# Altium schematic symbol library Resistors.SchLib: 196 symbols (part 2 of 2)
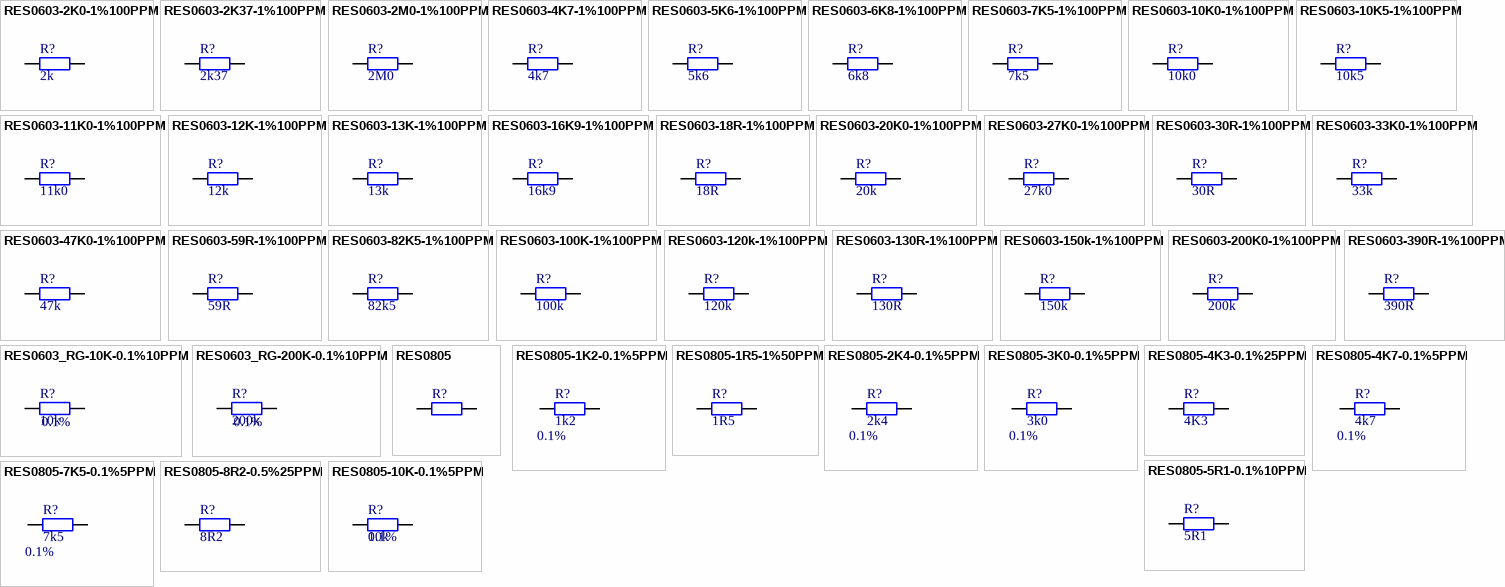
[diagram p7: symbols RES0603-2K0-1%100PPM to RES0805-10K-0.1%5PPM]

## RES0603_RG-10K-0.1%10PPM
designator R?, comment 10k  Comment3: 0.1%
Chip Resistor 0603 Precision; Manufacturer: Susumu, Farnell; Manufacturer No: RG1608N-103-B-T1, 1653317; Comment2: 0.1W 0.1% 10ppm 75V; Sort: 110; Tech: SMDR; Package: Res Chip 0603; Price: 0.31
simulation model RESISTOR (Resistor)
signal-integrity model Res
footprint RC0603-1 (Chip upor 0603)
footprint RC0603-2N (Chip Resistor, 2-Leads, Body 1,6x0,8mm, IPC Medium Density)
footprint RC0603-2 (Chip resistor 0603 low C)
pins: 1, 2

## RES0603_RG-200K-0.1%10PPM
designator R?, comment 200k  Comment3: 0.1%
Chip Resistor 0603 Precision; Manufacturer: Susumu, Farnell; Manufacturer No: RG1608N-204-B-T1, 1653319; Comment2: 0.1W 0.1% 10ppm 75V; Sort: 110; Tech: SMDR; Package: Res Chip 0603; Price: 0.31
simulation model RESISTOR (Resistor)
signal-integrity model Res
footprint RC0603-1 (Chip upor 0603)
footprint RC0603-2N (Chip Resistor, 2-Leads, Body 1,6x0,8mm, IPC Medium Density)
footprint RC0603-2 (Chip resistor 0603 low C)
pins: 1, 2

## RES0805
designator R?
Chip Resistor 0805; Comment2: 0.125W 1% 200ppm; Sort: 110; Tech: SMDR; Package: Res Chip 0805; Price: 0.002
simulation model RESISTOR (Resistor)
signal-integrity model Res
footprint RC0805-1 (Chip upor 0805)
footprint RC0805RF1 (Chip upor 0805; smaller pads for RF)
pins: 1, 2

## RES0805-1K2-0.1%5PPM
designator R?, comment 1k2  Tolerance: 0.1%
Chip Resistor 0805 Precision; Manufacturer: Welwyn, Farnell; Manufacturer No: PCF0805-13-1K2-B-T1., 1108866; Comment2: 0.1W 0.1% 5ppm; Sort: 112; Tech: SMDR; Package: Res Chip 0805; Price: 0.77
simulation model RESISTOR (Resistor)
signal-integrity model Res
footprint RC0805-1 (Chip upor 0805)
footprint RC0805RF1 (Chip upor 0805; smaller pads for RF)
pins: 1, 2

## RES0805-1R5-1%50PPM
designator R?, comment 1R5
Chip Resistor 0805 Precision; Manufacturer: Yageo; Manufacturer No: RT0805FRE071R5L; Comment2: 0.1W 1% 50ppm; Sort: 112; Tech: SMDR; Package: Res Chip 0805; Price: 1.1
simulation model RESISTOR (Resistor)
signal-integrity model Res
footprint RC0805-1 (Chip upor 0805)
footprint RC0805RF1 (Chip upor 0805; smaller pads for RF)
pins: 1, 2

## RES0805-2K4-0.1%5PPM
designator R?, comment 2k4  Tolerance: 0.1%
Chip Resistor 0805 Precision; Manufacturer: Welwyn, Farnell; Manufacturer No: PCF0805-13-2K4-B-T1., 1108874; Comment2: 0.1W 0.1% 5ppm; Sort: 112; Tech: SMDR; Package: Res Chip 0805; Price: 1.1
simulation model RESISTOR (Resistor)
signal-integrity model Res
footprint RC0805-1 (Chip upor 0805)
footprint RC0805RF1 (Chip upor 0805; smaller pads for RF)
pins: 1, 2

## RES0805-3K0-0.1%5PPM
designator R?, comment 3k0  Tolerance: 0.1%
Chip Resistor 0805 Precision; Manufacturer: Welwyn, Farnell; Manufacturer No: PCF0805-13-3K-B-T1., 1108877; Comment2: 0.1W 0.1% 5ppm; Sort: 112; Tech: SMDR; Package: Res Chip 0805; Price: 1.1
simulation model RESISTOR (Resistor)
signal-integrity model Res
footprint RC0805-1 (Chip upor 0805)
footprint RC0805RF1 (Chip upor 0805; smaller pads for RF)
pins: 1, 2

## RES0805-4K3-0.1%25PPM
designator R?, comment 4K3
Chip Resistor 0805 Precision; Manufacturer: Panasonic, DigiK-key; Manufacturer No: ERA-6AEB432V. P4.3KDACT-ND; Comment2: 0.125W 0.1% 25ppm; Sort: 112; Tech: SMDR; Package: Res Chip 0805; Price: 1.1
simulation model RESISTOR (Resistor)
signal-integrity model Res
footprint RC0805-1 (Chip upor 0805)
footprint RC0805RF1 (Chip upor 0805; smaller pads for RF)
pins: 1, 2

## RES0805-4K7-0.1%5PPM
designator R?, comment 4k7  Tolerance: 0.1%
Chip Resistor 0805 Precision; Manufacturer: Welwyn, Farnell; Manufacturer No: PCF0805-13-4K7-B-T1., 1108882; Comment2: 0.1W 0.1% 5ppm; Sort: 112; Tech: SMDR; Package: Res Chip 0805; Price: 1.1
simulation model RESISTOR (Resistor)
signal-integrity model Res
footprint RC0805-1 (Chip upor 0805)
footprint RC0805RF1 (Chip upor 0805; smaller pads for RF)
pins: 1, 2

## RES0805-5R1-0.1%10PPM
designator R?, comment 5R1
Chip Resistor 0805 Precision; Manufacturer: Yageo; Manufacturer No: RT0805BRB075R1L; Comment2: 0.125W 0.1% 10ppm; Sort: 112; Tech: SMDR; Package: Res Chip 0805; Price: 1.1
simulation model RESISTOR (Resistor)
signal-integrity model Res
footprint RC0805-1 (Chip upor 0805)
footprint RC0805RF1 (Chip upor 0805; smaller pads for RF)
pins: 1, 2

## RES0805-7K5-0.1%5PPM
designator R?, comment 7k5  Tolerance: 0.1%
Chip Resistor 0805 Precision; Manufacturer: Welwyn, Farnell; Manufacturer No: PCF0805-13-7K5-B-T1., 1108887; Comment2: 0.1W 0.1% 5ppm; Sort: 112; Tech: SMDR; Package: Res Chip 0805; Price: 0.77
simulation model RESISTOR (Resistor)
signal-integrity model Res
footprint RC0805-1 (Chip upor 0805)
footprint RC0805RF1 (Chip upor 0805; smaller pads for RF)
pins: 1, 2

## RES0805-8R2-0.5%25PPM
designator R?, comment 8R2
Chip Resistor 0805 Precision; Manufacturer: Yageo; Manufacturer No: RT0805DRD078R2L; Comment2: 0.1W 0.5% 25ppm; Sort: 112; Tech: SMDR; Package: Res Chip 0805; Price: 1.1
simulation model RESISTOR (Resistor)
signal-integrity model Res
footprint RC0805-1 (Chip upor 0805)
footprint RC0805RF1 (Chip upor 0805; smaller pads for RF)
pins: 1, 2

## RES0805-10K-0.1%5PPM
designator R?, comment 10k  Tolerance: 0.1%
Chip Resistor 0805 Precision; Manufacturer: Welwyn, Farnell; Manufacturer No: PCF0805-13-10K-B-T1., 1108892; Comment2: 0.1W 0.1% 5ppm; Sort: 112; Tech: SMDR; Package: Res Chip 0805; Price: 0.77
simulation model RESISTOR (Resistor)
signal-integrity model Res
footprint RC0805-1 (Chip upor 0805)
footprint RC0805RF1 (Chip upor 0805; smaller pads for RF)
pins: 1, 2

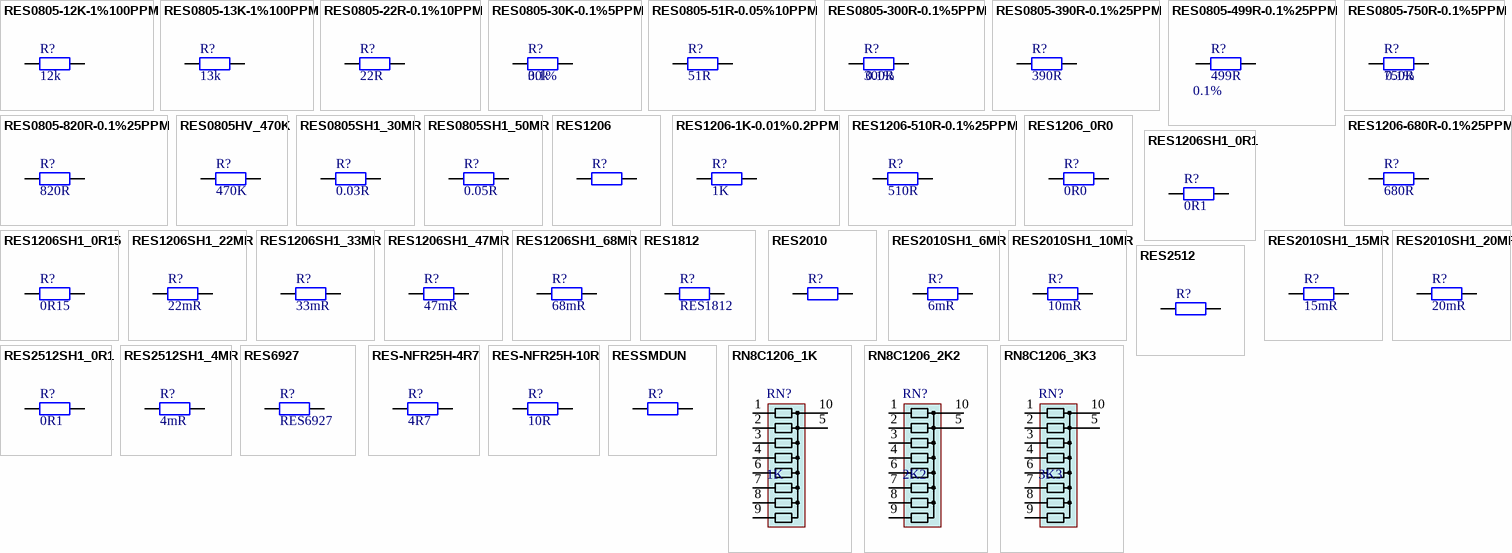
[diagram p5: symbols RES0805-12K-1%100PPM to RN8C1206_3K3]

## RES0805-12K-1%100PPM
designator R?, comment 12k
Chip Resistor 0805 Precision; Manufacturer: Panasonic; Manufacturer No: ERJ-3EKF1202V; Comment2: 0.1W 1% 100ppm; Sort: 112; Tech: SMDR; Package: Res Chip 0805; Price: 0.1; Supplier: Digi-Key; Supplier No: P12.0KHCT-ND
simulation model RESISTOR (Resistor)
signal-integrity model Res
footprint RC0805-1 (Chip upor 0805)
footprint RC0805RF1 (Chip upor 0805; smaller pads for RF)
pins: 1, 2

## RES0805-13K-1%100PPM
designator R?, comment 13k
Chip Resistor 0805 Precision; Manufacturer: Panasonic; Manufacturer No: ERJ-6ENF1302V; Comment2: 0.1W 1% 100ppm; Sort: 112; Tech: SMDR; Package: Res Chip 0805; Price: 0.1; Supplier: Digi-Key; Supplier No: P13.0KCCT-ND
simulation model RESISTOR (Resistor)
signal-integrity model Res
footprint RC0805-1 (Chip upor 0805)
footprint RC0805RF1 (Chip upor 0805; smaller pads for RF)
pins: 1, 2

## RES0805-22R-0.1%10PPM
designator R?, comment 22R
Chip Resistor 0805 Precision; Manufacturer: Yageo; Manufacturer No: RT0805BRB0722RL; Comment2: 0.125W 0.1% 10ppm; Sort: 112; Tech: SMDR; Package: Res Chip 0805; Price: 1.1
simulation model RESISTOR (Resistor)
signal-integrity model Res
footprint RC0805-1 (Chip upor 0805)
footprint RC0805RF1 (Chip upor 0805; smaller pads for RF)
pins: 1, 2

## RES0805-30K-0.1%5PPM
designator R?, comment 30k  Tolerance: 0.1%
Chip Resistor 0805 Precision; Manufacturer: Welwyn, Farnell; Manufacturer No: PCF0805-13-30K-B-T1., 1108903; Comment2: 0.1W 0.1% 5ppm; Sort: 112; Tech: SMDR; Package: Res Chip 0805; Price: 0.77
simulation model RESISTOR (Resistor)
signal-integrity model Res
footprint RC0805-1 (Chip upor 0805)
footprint RC0805RF1 (Chip upor 0805; smaller pads for RF)
pins: 1, 2

## RES0805-51R-0.05%10PPM
designator R?, comment 51R
Chip Resistor 0805 Precision; Manufacturer: Yageo, Susumu, DigiK-key,; Manufacturer No: RT0805BRB0751RL, RG2012N-510-W-T1, RG20N51WCT-ND; Comment2: 0.125W 0.1% 10ppm; Sort: 112; Tech: SMDR; Package: Res Chip 0805; Price: 1.1
simulation model RESISTOR (Resistor)
signal-integrity model Res
footprint RC0805-1 (Chip upor 0805)
footprint RC0805RF1 (Chip upor 0805; smaller pads for RF)
pins: 1, 2

## RES0805-300R-0.1%5PPM
designator R?, comment 300R  Tolerance: 0.1%
Chip Resistor 0805 Precision; Manufacturer: Welwyn, Farnell; Manufacturer No: PCF0805-13-300R-B-T1, 1108848; Comment2: 0.1W 0.1% 5ppm; Sort: 112; Tech: SMDR; Package: Res Chip 0805; Price: 0,77
simulation model RESISTOR (Resistor)
signal-integrity model Res
footprint RC0805-1 (Chip upor 0805)
footprint RC0805RF1 (Chip upor 0805; smaller pads for RF)
pins: 1, 2

## RES0805-390R-0.1%25PPM
designator R?, comment 390R
Chip Resistor 0805 Precision; Manufacturer: Panasonic, DigiK-key; Manufacturer No: 311-5.1VCT-ND, P390DACT-ND; Comment2: 0.125W 0.1% 25ppm; Sort: 112; Tech: SMDR; Package: Res Chip 0805; Price: 1.1
simulation model RESISTOR (Resistor)
signal-integrity model Res
footprint RC0805-1 (Chip upor 0805)
footprint RC0805RF1 (Chip upor 0805; smaller pads for RF)
pins: 1, 2

## RES0805-499R-0.1%25PPM
designator R?, comment 499R  Tolerance: 0.1%
Chip Resistor 0805 Precision; Manufacturer: Welwyn, Farnell; Manufacturer No: PCF0805R 499RBI.T1, 1160132; Comment2: 0.1W 0.1% 25ppm; Sort: 112; Tech: SMDR; Package: Res Chip 0805; Price: 0,4
simulation model RESISTOR (Resistor)
signal-integrity model Res
footprint RC0805-1 (Chip upor 0805)
footprint RC0805RF1 (Chip upor 0805; smaller pads for RF)
pins: 1, 2

## RES0805-750R-0.1%5PPM
designator R?, comment 750R  Tolerance: 0.1%
Chip Resistor 0805 Precision; Manufacturer: Welwyn, Farnell; Manufacturer No: PCF0805-13-750R-B-T1, 1108860; Comment2: 0.1W 0.1% 5ppm; Sort: 112; Tech: SMDR; Package: Res Chip 0805; Price: 0,4
simulation model RESISTOR (Resistor)
signal-integrity model Res
footprint RC0805-1 (Chip upor 0805)
footprint RC0805RF1 (Chip upor 0805; smaller pads for RF)
pins: 1, 2

## RES0805-820R-0.1%25PPM
designator R?, comment 820R
Chip Resistor 0805 Precision; Manufacturer: Panasonic, DigiK-key; Manufacturer No: ERA-6AEB821V, P820DACT-ND; Comment2: 0.125W 0.1% 25ppm; Sort: 112; Tech: SMDR; Package: Res Chip 0805; Price: 1.1
simulation model RESISTOR (Resistor)
signal-integrity model Res
footprint RC0805-1 (Chip upor 0805)
footprint RC0805RF1 (Chip upor 0805; smaller pads for RF)
pins: 1, 2

## RES0805HV_470K
designator R?, comment 470K
Hi Voltage Chip Resistor 0805; Manufacturer: Phycomp, Farnell; Manufacturer No: 232279261474, 1376992; Comment2: 0.125W 5% 400V DC; Sort: 110; Tech: SMDR; Package: Res Chip 0805; Price: 0.35
simulation model RESISTOR (Resistor)
signal-integrity model Res
footprint RC0805-1 (Chip resistor 0805)
pins: 1, 2

## RES0805SH1_30MR
designator R?, comment 0.03R
Chip Shunt Resistor 0805; Manufacturer: Vishay, Farnell; Manufacturer No: WSL-0805 .03 1% EB E3, 1107335; Comment2: 0.125W 1% 275ppm; Sort: 110; Tech: SMDR; Package: Res Chip 0805; Price: 0.002
simulation model RESISTOR (Resistor)
signal-integrity model Res
footprint RC0805-1 (Chip upor 0805)
footprint RC0805RF1 (Chip upor 0805; smaller pads for RF)
pins: 1, 2

## RES0805SH1_50MR
designator R?, comment 0.05R
Chip Shunt Resistor 0805; Manufacturer: Vishay, Farnell; Manufacturer No: WSL-0805 .05 1% EB E3, 1107337; Comment2: 0.125W 1% 275ppm; Sort: 110; Tech: SMDR; Package: Res Chip 0805; Price: 0.002
simulation model RESISTOR (Resistor)
signal-integrity model Res
footprint RC0805-1 (Chip upor 0805)
footprint RC0805RF1 (Chip upor 0805; smaller pads for RF)
pins: 1, 2

## RES1206
designator R?
Chip Resistor 1206; Comment2: 0.25W 1% 200ppm; Sort: 110; Tech: SMDR; Package: Res Chip 1206; Price: 0.002
simulation model RESISTOR (Resistor)
signal-integrity model Res
footprint RC1206-1 (Chip upor 1206)
footprint RC1206RF1 (Chip upor 1206; smaller pads for RF)
pins: 1, 2

## RES1206-1K-0.01%0.2PPM
designator R?, comment 1K
Chip Resistor 1206; Manufacturer: Vishay, Digi-Key; Manufacturer No: Y16251K00000T9R, Y1625-1KCT-ND; Comment2: 0.125W 0.01% 0.2ppm; Sort: 110; Tech: SMDR; Package: Res Chip 1206; Price: 0.002
simulation model RESISTOR (Resistor)
signal-integrity model Res
footprint RC1206-1 (Chip resistor 1206)
footprint RC0603-2N (Chip Resistor, 2-Leads, Body 1,6x0,8mm, IPC Medium Density)
footprint RC0603-2 (Chip resistor 0603 low C)
pins: 1, 2

## RES1206-510R-0.1%25PPM
designator R?, comment 510R
Chip Resistor 1206; Manufacturer: Panasonic, Farnell; Manufacturer No: ERA8AEB511V, 1841747; Comment2: 0.25W 0.1% 25ppm; Sort: 110; Tech: SMDR; Package: Res Chip 1206; Price: 0.32
simulation model RESISTOR (Resistor)
signal-integrity model Res
footprint RC1206-1 (Chip resistor 1206)
pins: 1, 2

## RES1206-680R-0.1%25PPM
designator R?, comment 680R
Chip Resistor 1206; Manufacturer: Panasonic, Farnell; Manufacturer No: ERA8AAEB681V, 1717744; Comment2: 0.25W 0.1% 25ppm; Sort: 110; Tech: SMDR; Package: Res Chip 1206; Price: 0.32
simulation model RESISTOR (Resistor)
signal-integrity model Res
footprint RC1206-1 (Chip resistor 1206)
pins: 1, 2

## RES1206_0R0
designator R?, comment 0R0
SMD-bridge 0R0 1206; Manufacturer: Mentor; Manufacturer No: 1295.0001; Comment2: 0.25W 1% 200ppm; Sort: 110; Tech: SMDR; Package: Res Chip 1206; Price: 0.002
footprint RC1206-1 (Chip upor 1206)
pins: 1, 2

## RES1206SH1_0R1
designator R?, comment 0R1
Chip Shunt Resistor 1206 1000ppm; Manufacturer: Yageo, Farnell; Manufacturer No: RL1206FR-7W0R1L, 8067589; Comment2: 0.5W 1% 1000ppm; Sort: 110; Tech: SMDR; Package: Res Chip 1206; Price: 0.3
simulation model RESISTOR (Resistor)
signal-integrity model Res
footprint RC1206-1 (Chip upor 1206)
footprint RC1206RF1 (Chip upor 1206; smaller pads for RF)
pins: 1, 2

## RES1206SH1_0R15
designator R?, comment 0R15
Chip Shunt Resistor 1206 1000ppm; Manufacturer: Yageo, Farnell; Manufacturer No: RL1206FR-7W0R15L, 8067597; Comment2: 0.5W 1% 1000ppm; Sort: 110; Tech: SMDR; Package: Res Chip 1206; Price: 0.3
simulation model RESISTOR (Resistor)
signal-integrity model Res
footprint RC1206-1 (Chip upor 1206)
footprint RC1206RF1 (Chip upor 1206; smaller pads for RF)
pins: 1, 2

## RES1206SH1_22MR
designator R?, comment 22mR
Chip Shunt Resistor 1206 1000ppm; Manufacturer: Yageo, Farnell; Manufacturer No: RL1206FR-7W0R022L, 8067546; Comment2: 0.5W 1% 1000ppm; Sort: 110; Tech: SMDR; Package: Res Chip 1206; Price: 0.3
simulation model RESISTOR (Resistor)
signal-integrity model Res
footprint RC1206-1 (Chip upor 1206)
footprint RC1206RF1 (Chip upor 1206; smaller pads for RF)
pins: 1, 2

## RES1206SH1_33MR
designator R?, comment 33mR
Chip Shunt Resistor 1206 1000ppm; Manufacturer: Yageo, Farnell; Manufacturer No: RL1206FR-7W0R033L, 8067554; Comment2: 0.5W 1% 1000ppm; Sort: 110; Tech: SMDR; Package: Res Chip 1206; Price: 0.3
simulation model RESISTOR (Resistor)
signal-integrity model Res
footprint RC1206-1 (Chip upor 1206)
footprint RC1206RF1 (Chip upor 1206; smaller pads for RF)
pins: 1, 2

## RES1206SH1_47MR
designator R?, comment 47mR
Chip Shunt Resistor 1206 1000ppm; Manufacturer: Yageo, Farnell; Manufacturer No: RL1206FR-7W0R047L, 8067562; Comment2: 0.5W 1% 1000ppm; Sort: 110; Tech: SMDR; Package: Res Chip 1206; Price: 0.3
simulation model RESISTOR (Resistor)
signal-integrity model Res
footprint RC1206-1 (Chip upor 1206)
footprint RC1206RF1 (Chip upor 1206; smaller pads for RF)
pins: 1, 2

## RES1206SH1_68MR
designator R?, comment 68mR
Chip Shunt Resistor 1206 1000ppm; Manufacturer: Yageo, Farnell; Manufacturer No: RL1206FR-7W0R068L, 8067570; Comment2: 0.5W 1% 1000ppm; Sort: 110; Tech: SMDR; Package: Res Chip 1206; Price: 0.3
simulation model RESISTOR (Resistor)
signal-integrity model Res
footprint RC1206-1 (Chip upor 1206)
footprint RC1206RF1 (Chip upor 1206; smaller pads for RF)
pins: 1, 2

## RES1812
designator R?
Chip Resistor 1812; Comment2: 0.25W 1% 200ppm; Sort: 110; Tech: SMDR; Package: Res Chip 1812; Price: 0.002
simulation model RESISTOR (Resistor)
signal-integrity model Res
footprint RC1812-1 (Chip resistor 1812)
footprint RC1206RF1 (Chip upor 1206; smaller pads for RF)
pins: 1, 2

## RES2010
designator R?
Chip Resistor 2010; Comment2: 0.5W 1% 50ppm; Sort: 110; Tech: SMDR; Package: Res Chip 2010; Price: 0.01
simulation model RESISTOR (Resistor)
signal-integrity model Res
footprint RC2010-1 (Chip upor 2010)
pins: 1, 2

## RES2010SH1_6MR
designator R?, comment 6mR
Chip Resistor 2010 current shunt; Manufacturer: Digikey; Manufacturer No: CSRF10.006FRCT-ND; Comment2: 1W 1% 100ppm; Sort: 115; Tech: SMDR; Package: Res Chip 2010; Price: 1
simulation model RESISTOR (Resistor)
signal-integrity model Res
footprint RC2010-SH1 (Chip resistor 2010 shunt 5x2.5x0.6mm)
pins: 1, 2

## RES2010SH1_10MR
designator R?, comment 10mR
Chip Resistor 2010 current shunt; Manufacturer: WELWYN, Farnell; Manufacturer No: LRF2010-R01FW , 1100044; Comment2: 1W 1% 100ppm; Sort: 115; Tech: SMDR; Package: Res Chip 2010; Price: 0.8
simulation model RESISTOR (Resistor)
signal-integrity model Res
footprint RC2010-SH1 (Chip resistor 2010 shunt 5x2.5x0.6mm)
pins: 1, 2

## RES2010SH1_15MR
designator R?, comment 15mR
Chip Resistor 2010 current shunt; Manufacturer: WELWYN, Farnell; Manufacturer No: LRF2010-R015FW, 1100045; Comment2: 1W 1% 75ppm; Sort: 115; Tech: SMDR; Package: Res Chip 2010; Price: 0.7
simulation model RESISTOR (Resistor)
signal-integrity model Res
footprint RC2010-SH1 (Chip resistor 2010 shunt 5x2.5x0.6mm)
pins: 1, 2

## RES2010SH1_20MR
designator R?, comment 20mR
Chip Resistor 2010 current shunt; Manufacturer: Vishay, Farnell; Manufacturer No: WSL2010R0200FEB, 1107366; Comment2: 0.5W 1% 70ppm; Sort: 115; Tech: SMDR; Package: Res Chip 2010; Price: 0.61
simulation model RESISTOR (Resistor)
signal-integrity model Res
footprint RC2010-SH1 (Chip resistor 2010 shunt 5x2.5x0.6mm)
pins: 1, 2

## RES2512
designator R?
Chip Resistor 2512; Comment2: 1W 1% 200ppm; Sort: 110; Tech: SMDR; Package: Res Chip 2512; Price: 0.015
simulation model RESISTOR (Resistor)
signal-integrity model Res
footprint RC2512-1 (Chip upor 2512)
pins: 1, 2

## RES2512SH1_0R1
designator R?, comment 0R1
Chip Resistor 2512 current shunt; Manufacturer: Isabellenhutte; Manufacturer No: LMS; Comment2: 2W 1% 50ppm; Sort: 115; Tech: SMDR; Package: Res Chip 2010; Price: 0.81
simulation model RESISTOR (Resistor)
signal-integrity model Res
footprint RC2512-SH1 (Chip Shunt resistor 2512)
pins: 1, 2

## RES2512SH1_4MR
designator R?, comment 4mR
Chip Resistor 2512 current shunt; Manufacturer: KOA, Farnell; Manufacturer No: TLR2HDTE6L00F75, 1400831; Comment2: 1W 1% 75ppm; Sort: 115; Tech: SMDR; Package: Res Chip 2010; Price: 0.81
simulation model RESISTOR (Resistor)
signal-integrity model Res
footprint RC2010-SH1 (Chip resistor 2010 shunt 5x2.5x0.6mm)
pins: 1, 2

## RES6927
designator R?
Chip Resistor 6927; Manufacturer: Vishay, Farnell; Manufacturer No: WSC6927, 7526118; Comment2: 3W 1% 50ppm  0.1 - 8kOhm; Sort: 110; Tech: SMDR; Package: Res Chip 6927; Price: 0.015
simulation model RESISTOR (Resistor)
signal-integrity model Res
footprint RESC6927N (Chip Resistor, Body 17.5x7mm)
pins: 1, 2

## RES-NFR25H-4R7
designator R?, comment 4R7
Fusible Resistor 0207; Manufacturer No: NFR25H; Comment2: 0.5W 5% 350V; Sort: 120; Tech: THDW; Package: RESAX0207; Price: 0.01
simulation model RESISTOR (Resistor)
signal-integrity model Res
footprint Model Name (Footprint not found)
footprint RESAX0207-1 (Resistor axial 2x7mm R10mm)
pins: 1, 2

## RES-NFR25H-10R
designator R?, comment 10R
Fusible Resistor 0207; Manufacturer No: NFR25H; Comment2: 0.5W 5% 350V; Sort: 120; Tech: THDW; Package: RESAX0207; Price: 0.01
simulation model RESISTOR (Resistor)
signal-integrity model Res
footprint Model Name (Footprint not found)
footprint RESAX0207-1 (Resistor axial 2x7mm R10mm)
pins: 1, 2

## RESSMDUN
designator R?
Chip Resistor; Comment2: ?W 1% 200ppm; Sort: 110; Tech: SMDR; Package: =Footprint; Price: 0.002
simulation model RESISTOR (Resistor)
signal-integrity model Res
footprint RC0603-1 (Chip upor 0603)
footprint RC0402-1 (Chip upor 0402)
footprint RC0805-1 (Chip upor 0805)
footprint RC1206-1 (Chip upor 1206)
footprint RC2010-1 (Chip upor 2010)
footprint RC2512-1 (Chip upor 2512)
pins: 1, 2

## RN8C1206_1K
designator RN?, comment 1K
Resistor network 8 resistors common pin; 10 pin; Manufacturer: Phycomp, Farnell; Comment2: 0.032W/R 5%; Sort: 112; Tech: SMDR; Package: Res Network 1206 10pin; Price: 0
signal-integrity model Model Name (Model Description)
footprint RN1206-10 (Resistor network 8x common R; 1206 10 pin R0.64mm)
pins: 1, 2, 3, 4, 5, 6, 7, 8, 9, 10

## RN8C1206_2K2
designator RN?, comment 2K2
Resistor network 8 resistors common pin; 10 pin; Manufacturer: Phycomp, Farnell; Comment2: 0.032W/R 5%; Sort: 112; Tech: SMDR; Package: Res Network 1206 10pin; Price: 0
signal-integrity model Model Name (Model Description)
footprint RN1206-10 (Resistor network 8x common R; 1206 10 pin R0.64mm)
pins: 1, 2, 3, 4, 5, 6, 7, 8, 9, 10

## RN8C1206_3K3
designator RN?, comment 3K3
Resistor network 8 resistors common pin; 10 pin; Manufacturer: Phycomp, Farnell; Comment2: 0.032W/R 5%; Sort: 112; Tech: SMDR; Package: Res Network 1206 10pin; Price: 0
signal-integrity model Model Name (Model Description)
footprint RN1206-10 (Resistor network 8x common R; 1206 10 pin R0.64mm)
pins: 1, 2, 3, 4, 5, 6, 7, 8, 9, 10

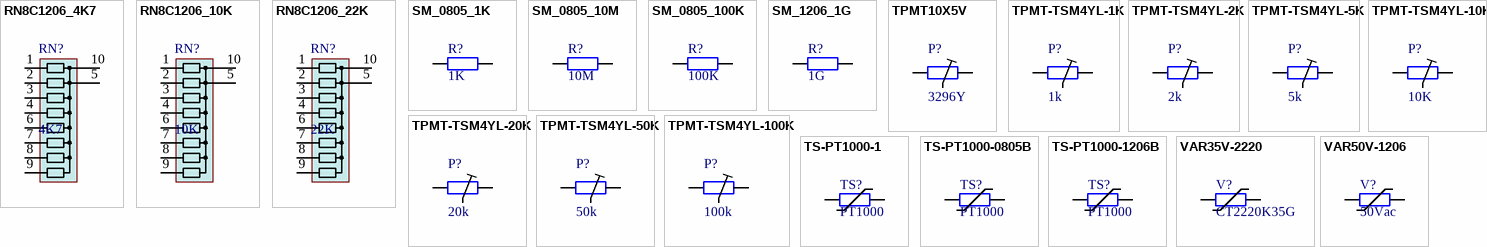
[diagram p6: symbols RN8C1206_4K7 to VAR50V-1206]

## RN8C1206_4K7
designator RN?, comment 4K7
Resistor network 8 resistors common pin; 10 pin; Manufacturer: Phycomp, Farnell; Manufacturer No: 235023010472, 9236210; Comment2: 0.032W/R 5%; Sort: 112; Tech: SMDR; Package: Res Network 1206 10pin; Price: 0
signal-integrity model Model Name (Model Description)
footprint RN1206-10 (Resistor network 8x common R; 1206 10 pin R0.64mm)
pins: 1, 2, 3, 4, 5, 6, 7, 8, 9, 10

## RN8C1206_10K
designator RN?, comment 10K
Resistor network 8 resistors common pin; 10 pin; Manufacturer: Phycomp, Farnell; Manufacturer No: 235023010103L, 9236236; Comment2: 0.032W/R 5%; Sort: 112; Tech: SMDR; Package: Res Network 1206 10pin; Price: 0
signal-integrity model Model Name (Model Description)
footprint RN1206-10 (Resistor network 8x common R; 1206 10 pin R0.64mm)
pins: 1, 2, 3, 4, 5, 6, 7, 8, 9, 10

## RN8C1206_22K
designator RN?, comment 22K
Resistor network 8 resistors common pin; 10 pin; Manufacturer: Phycomp, Farnell; Comment2: 0.032W/R 5%; Sort: 112; Tech: SMDR; Package: Res Network 1206 10pin; Price: 0
signal-integrity model Model Name (Model Description)
footprint RN1206-10 (Resistor network 8x common R; 1206 10 pin R0.64mm)
pins: 1, 2, 3, 4, 5, 6, 7, 8, 9, 10

## SM_0805_1K
designator R?, comment 1K
SM Series Chip Resistor 1K; Manufacturer: Ohmcraft; Manufacturer No: SM 1206 H 1001 FT; Comment2: 1K, 50ppm/C, 1.0%; Sort: 110; Tech: SMDR; Package: Res Chip 0805
simulation model RESISTOR (Resistor)
signal-integrity model Res
footprint RC0805-1 (Chip resistor 0805)
footprint RC0805RF1 (Chip resistor 0805; smaller pads for RF)
pins: 1, 2

## SM_0805_10M
designator R?, comment 10M
SM Series Chip Resistor 10M; Manufacturer: Ohmcraft; Manufacturer No: SM 1206 H 1005 FT; Comment2: 10M, 50ppm/C, 1.0%; Sort: 110; Tech: SMDR; Package: Res Chip 0805
simulation model RESISTOR (Resistor)
signal-integrity model Res
footprint RC0805-1 (Chip resistor 0805)
footprint RC0805RF1 (Chip resistor 0805; smaller pads for RF)
pins: 1, 2

## SM_0805_100K
designator R?, comment 100K
SM Series Chip Resistor 100K; Manufacturer: Ohmcraft; Manufacturer No: SM 1206 H 1003 FT; Comment2: 100K, 50ppm/C, 1.0%; Sort: 110; Tech: SMDR; Package: Res Chip 0805
simulation model RESISTOR (Resistor)
signal-integrity model Res
footprint RC0805-1 (Chip resistor 0805)
footprint RC0805RF1 (Chip resistor 0805; smaller pads for RF)
pins: 1, 2

## SM_1206_1G
designator R?, comment 1G
SM Series Chip Resistor 1G; Manufacturer: Ohmcraft; Manufacturer No: SM 1206 H 1007 FT; Comment2: 1G, 50ppm/C, 1.0%; Sort: 110; Tech: SMDR; Package: Res Chip 1206
simulation model RESISTOR (Resistor)
signal-integrity model Res
footprint RC1206-1 (Chip resistor 1206)
footprint RC1206RF1 (Chip upor 1206; smaller pads for RF)
pins: 1, 2

## TPMT10X5V
designator P?, comment 3296Y
Trimmer potentiometer multiturn; Manufacturer: BOURNS, FARNELL; Manufacturer No: 3296Y-1-500LF, 9316507; Sort: 140; Tech: THDW; Package: 3296Y; Price: 0
simulation model RESISTOR (Resistor)
signal-integrity model Res
footprint TP67Y-1 (Trimmer potentiometer vertical 10X5X10mm W)
pins: 1, 2, 3

## TPMT-TSM4YL-1K
designator P?, comment 1k
SMD Trimmer potentiometer multiturn; Manufacturer: Vishay, Farnell; Manufacturer No: TSM4YL102KR05, 1141359; Comment2: 13 turns 0.25W 10%  100ppm; Sort: 140; Tech: THDW; Package: TSM4-YL; Price: 2,35
simulation model RESISTOR (Resistor)
signal-integrity model Res
footprint TSM4-YL (Trimmer potentiometer vertical 4.8X3.5X5.1mm)
pins: 1, 2, 3

## TPMT-TSM4YL-2K
designator P?, comment 2k
SMD Trimmer potentiometer multiturn; Manufacturer: Vishay, Farnell; Manufacturer No: TSM4YL202KR05, 1141360; Comment2: 13 turns 0.25W 10%  100ppm; Sort: 140; Tech: THDW; Package: TSM4-YL; Price: 2,2
simulation model RESISTOR (Resistor)
signal-integrity model Res
footprint TSM4-YL (Trimmer potentiometer vertical 4.8X3.5X5.1mm)
pins: 1, 2, 3

## TPMT-TSM4YL-5K
designator P?, comment 5k
SMD Trimmer potentiometer multiturn; Manufacturer: Vishay, Farnell; Manufacturer No: TSM4YL502KB25, 1141361; Comment2: 13 turns 0.25W 10%  100ppm; Sort: 140; Tech: THDW; Package: TSM4-YL; Price: 2,2
simulation model RESISTOR (Resistor)
signal-integrity model Res
footprint TSM4-YL (Trimmer potentiometer vertical 4.8X3.5X5.1mm)
pins: 1, 2, 3

## TPMT-TSM4YL-10K
designator P?, comment 10K
SMD Trimmer potentiometer multiturn; Manufacturer: Vishay, Farnell; Manufacturer No: TSM4YL103KR05, 1141362; Comment2: 13 turns 0.25W 10%  100ppm; Sort: 140; Tech: THDW; Package: TSM4-YL; Price: 2,2
simulation model RESISTOR (Resistor)
signal-integrity model Res
footprint TSM4-YL (Trimmer potentiometer vertical 4.8X3.5X5.1mm)
pins: 1, 2, 3

## TPMT-TSM4YL-20K
designator P?, comment 20k
SMD Trimmer potentiometer multiturn; Manufacturer: Vishay, Farnell; Manufacturer No: TSM4YL203KR05, 1141364; Comment2: 13 turns 0.25W 10%  100ppm; Sort: 140; Tech: THDW; Package: TSM4-YL; Price: 2,2
simulation model RESISTOR (Resistor)
signal-integrity model Res
footprint TSM4-YL (Trimmer potentiometer vertical 4.8X3.5X5.1mm)
pins: 1, 2, 3

## TPMT-TSM4YL-50K
designator P?, comment 50k
SMD Trimmer potentiometer multiturn; Manufacturer: Vishay, Farnell; Manufacturer No: TSM4YL503KB25, 1141365; Comment2: 13 turns 0.25W 10%  100ppm; Sort: 140; Tech: THDW; Package: TSM4-YL; Price: 2,2
simulation model RESISTOR (Resistor)
signal-integrity model Res
footprint TSM4-YL (Trimmer potentiometer vertical 4.8X3.5X5.1mm)
pins: 1, 2, 3

## TPMT-TSM4YL-100K
designator P?, comment 100k
SMD Trimmer potentiometer multiturn; Manufacturer: Vishay, Farnell; Manufacturer No: TSM4YL104KR05, 1141366; Comment2: 13 turns 0.25W 10%  100ppm; Sort: 140; Tech: THDW; Package: TSM4-YL; Price: 2,2
simulation model RESISTOR (Resistor)
signal-integrity model Res
footprint TSM4-YL (Trimmer potentiometer vertical 4.8X3.5X5.1mm)
pins: 1, 2, 3

## TS-PT1000-1
designator TS?, comment PT1000
PT1000 2.3x2mm wired; Manufacturer: Farnell, IST; Manufacturer No: 1266941, P1K0.232.6W.A.010; Comment2: 3850ppm/K, class A, -90..300degC; Sort: 125; Tech: THDM; Package: Temp sens 2.3x2mm; Price: 5.8
simulation model RESISTOR (Resistor)
signal-integrity model Res
footprint RPT1000-2.3x2 (Temp. sensror PT1000 2,3x2mm)
pins: 1, 2

## TS-PT1000-0805B
designator TS?, comment PT1000
Temperature sensor PT1000 smd; Manufacturer: Farnell, IST; Manufacturer No: 1266948,     P1K0.0805.2P.B; Comment2: 3850ppm/K, class B, -60..+150degC; Sort: 125; Tech: THDM; Package: TS0805; Price: 4.1
simulation model RESISTOR (Resistor)
signal-integrity model Res
footprint RC0805-1 (Chip resistor 0805)
pins: 1, 2

## TS-PT1000-1206B
designator TS?, comment PT1000
Temperature sensor PT1000 smd; Manufacturer: Farnell, IST; Manufacturer No: 1266946, P1K0.1206.2P.B; Comment2: 3850ppm/K, class B, -60..+150degC; Sort: 125; Tech: THDM; Package: TS1206; Price: 4.2
simulation model RESISTOR (Resistor)
signal-integrity model Res
footprint RC1206-1 (Chip resistor 1206)
pins: 1, 2

## VAR35V-2220
designator V?, comment CT2220K35G
Varistor  SMD 2220; Manufacturer: Epcos; Manufacturer No: B72540T0350K062; Comment2: 1000A 35Vrms 7.7J; Sort: 120; Tech: SMDR; Package: Var Chip 2220; Price: 0.5
simulation model RESISTOR (Resistor)
signal-integrity model Res
footprint VAR2220-1 (Varistor capacitor 2220)
pins: 1, 2

## VAR50V-1206
designator V?, comment 50Vac
Varistor  SMD 1206; Manufacturer: Epcos, Farnell; Manufacturer No: B72520T500K62, 8832668; Comment2: 100A 135V 0.6J; Sort: 120; Tech: SMDR; Package: Var Chip 1206; Price: 0.5
simulation model RESISTOR (Resistor)
signal-integrity model Res
footprint VAR1206-1 (Chip varistor 1206)
pins: 1, 2